# EAGLE library part ARDUINO_MINI (library E14_Arduino_revC)
Device for representing an Arduino Mini board with a footprint in an EAGLE design. Created by Dave Young for Element14. More EAGLE documentation at: http://www.element14.com/community/community/knode/cadsoft_eagle
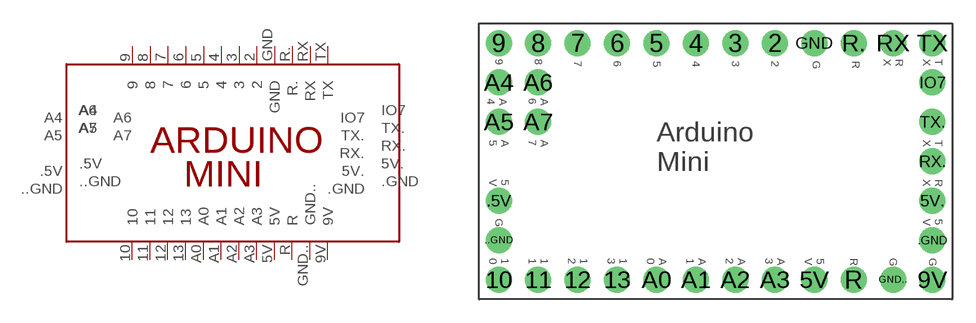
[diagram p3: symbol with the pads of ARDUINO_MINI; footprint ARDUINO_MINI]

Designator prefix PCB

## ARDUINO_MINI  [ARDUINO_MINI]
2  2
3  3
4  4
5  5
5V  5V
5V.  5V.
6  6
7  7
8  8
9  9
9V  9V
10  10
11  11
12  12
13  13
.5V  .5V
..GND  ..GND
.GND  .GND
A0  A0
A1  A1
A2  A2
A3  A3
A4  A4
A5  A5
A6  A6
A7  A7
GND  GND
GND..  GND..
IO7  IO7
R  R
R.  R.
RX  RX
RX.  RX.
TX  TX
TX.  TX.

## Footprint ARDUINO_MINI (pad centres in mm)
Footprint for representing an Arduino Mini board in an EAGLE schematic. Created by Dave Young for Element14. More EAGLE documentation at: http://www.element14.com/community/community/knode/cadsoft_eagle
drill 1.016 pad 1.676: 2 19.05,16.51; 3 16.51,16.51; 4 13.97,16.51; 5 11.43,16.51; 5V 21.59,1.27; 5V. 29.21,6.35; 6 8.89,16.51; 7 6.35,16.51; 8 3.81,16.51; 9 1.27,16.51; 9V 29.21,1.27; 10 1.27,1.27; 11 3.81,1.27; 12 6.35,1.27; 13 8.89,1.27; .5V 1.27,6.35; ..GND 1.27,3.81; .GND 29.21,3.81; A0 11.43,1.27; A1 13.97,1.27; A2 16.51,1.27; A3 19.05,1.27; A4 1.27,13.97; A5 1.27,11.43; A6 3.81,13.97; A7 3.81,11.43; GND 21.59,16.51; GND.. 26.67,1.27; IO7 29.21,13.97; R 24.13,1.27; R. 24.13,16.51; RX 26.67,16.51; RX. 29.21,8.89; TX 29.21,16.51; TX. 29.21,11.43